# Altium schematic symbol library digital_isolators.SchLib: 4 symbols
Pins are listed as number, name and electrical type; pins without a type are passive.

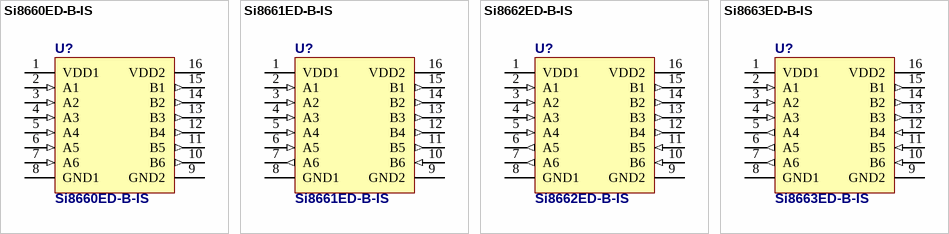
[diagram p0: symbols Si8660ED-B-IS to Si8663ED-B-IS]

## Si8660ED-B-IS
designator U?
5kV, 150Mbps Low Power Digital Isolator
footprint SO16W
pins: 1 VDD1 (power), 2 A1 (in), 3 A2 (in), 4 A3 (in), 5 A4 (in), 6 A5 (in), 7 A6 (in), 8 GND1 (power), 9 GND2 (power), 10 B6 (out), 11 B5 (out), 12 B4 (out), 13 B3 (out), 14 B2 (out), 15 B1 (out), 16 VDD2 (power)

## Si8661ED-B-IS
designator U?
5kV, 150Mbps Low Power Digital Isolator
footprint SO16W
pins: 1 VDD1 (power), 2 A1 (in), 3 A2 (in), 4 A3 (in), 5 A4 (in), 6 A5 (in), 7 A6 (out), 8 GND1 (power), 9 GND2 (power), 10 B6 (in), 11 B5 (out), 12 B4 (out), 13 B3 (out), 14 B2 (out), 15 B1 (out), 16 VDD2 (power)

## Si8662ED-B-IS
designator U?
5kV, 150Mbps Low Power Digital Isolator
footprint SO16W
pins: 1 VDD1 (power), 2 A1 (in), 3 A2 (in), 4 A3 (in), 5 A4 (in), 6 A5 (out), 7 A6 (out), 8 GND1 (power), 9 GND2 (power), 10 B6 (in), 11 B5 (in), 12 B4 (out), 13 B3 (out), 14 B2 (out), 15 B1 (out), 16 VDD2 (power)

## Si8663ED-B-IS
designator U?
5kV, 150Mbps Low Power Digital Isolator
footprint SO16W
pins: 1 VDD1 (power), 2 A1 (in), 3 A2 (in), 4 A3 (in), 5 A4 (out), 6 A5 (out), 7 A6 (out), 8 GND1 (power), 9 GND2 (power), 10 B6 (in), 11 B5 (in), 12 B4 (in), 13 B3 (out), 14 B2 (out), 15 B1 (out), 16 VDD2 (power)